# EAGLE library part 68610814422 (library Eagle_FPC_CONNECTOR_AND_FFC_CAB (rev18c))
WR-FPC 1.00mm SMT ZIF Horizontal Bottom Contact, 8 Pins=>Code : Con_FPC_ZIF_1.00_68610814422 <http://katalog.we-online.de/media/images/eican/Con_FPC_ZIF_1.00_6861xx14422_pf2.jpg> Details see: http://katalog.we-online.de/en/em/686_1xx_144_22 Created 2014-07-09, Karrer Zheng 2014 (C) Würth Elektronik
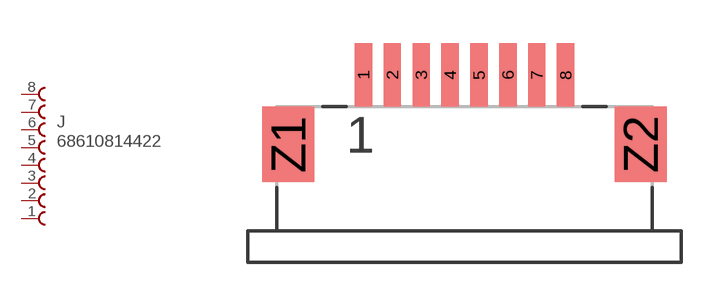
[diagram p3: symbol with the pads of 68610814422; footprint 68610814422]

Designator prefix J

## 68610814422  [68610814422]
1  8  pas
2  7  pas
3  6  pas
4  5  pas
5  4  pas
6  3  pas
7  2  pas
8  1  pas

## Footprint 68610814422 (pad centres in mm)
WR-FPC 1.00mm SMT ZIF Horizontal Bottom Contact, 8 Pins
smd 0.6 x 2.2: 1 -3.5,2.4; 2 -2.5,2.4; 3 -1.5,2.4; 4 -0.5,2.4; 5 0.5,2.4; 6 1.5,2.4; 7 2.5,2.4; 8 3.5,2.4
smd 1.8 x 2.6: Z1 -6.1,0; Z2 6.1,0